# EAGLE library part TPS40200 (library marionette)
Buck Power Controller, high side PFET, low side diode Drive, up to 500MHz adjustable frequency, Vin = 4.5V to 50V
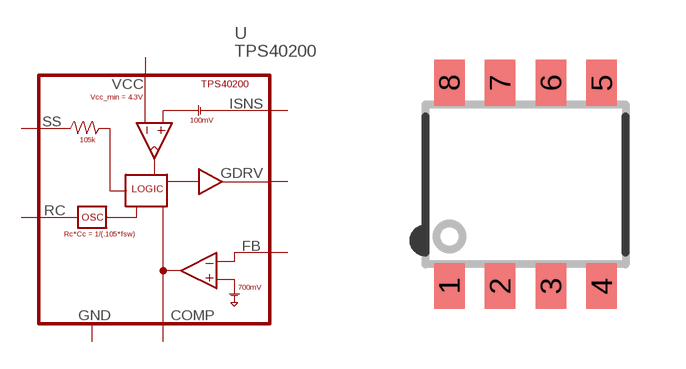
[diagram p6: symbol with the pads of SOIC-8; footprint SOIC-8]

Designator prefix U

## TPS40200-SOIC-8_296-23923-6-ND  [SOIC-8]
1  RC  in
2  SS  in
3  COMP  in
4  FB  in
5  GND  pwr
6  GDRV  out
7  ISNS  in
8  VCC  pwr

## Footprint SOIC-8 (pad centres in mm)
smd 0.762 x 1.143: 1 -1.905,-2.54; 2 -0.635,-2.54; 3 0.635,-2.54; 4 1.905,-2.54; 5 1.905,2.54; 6 0.635,2.54; 7 -0.635,2.54; 8 -1.905,2.54